# Altium schematic symbol library thrust_obc.SchLib: 17 symbols
Pins are listed as number, name and electrical type; pins without a type are passive.

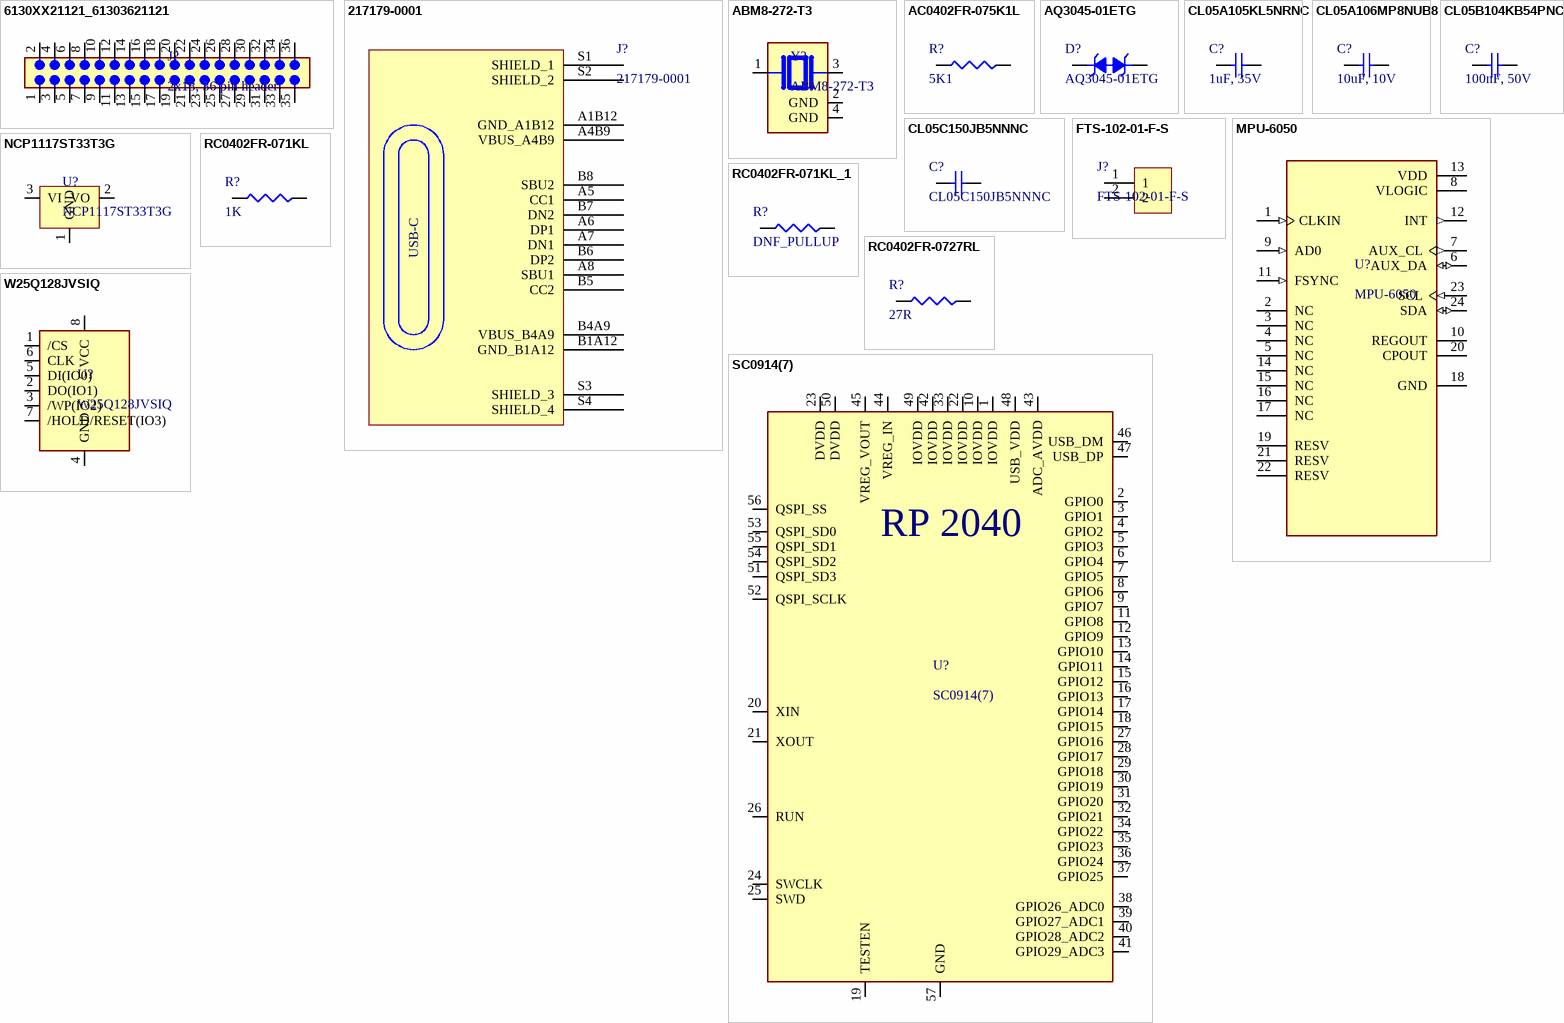
[diagram p0: symbols 6130XX21121_61303621121 to W25Q128JVSIQ]

## 6130XX21121_61303621121
designator J?, comment 2x18, 36 pin header
36 pins, dual Row , straight, gold plating; MF: Wurth Electronics; MP: 61303621121; SnapEDA_Link: https://www.snapeda.com/parts/61303621121/Wurth+Electronics/view-part/?ref=snap; Package: None; Value: *; Check_prices: https://www.snapeda.com/parts/61303621121/Wurth+Electronics/view-part/?ref=eda; DigiKey Part Number: 732-5309-ND
footprint 61303621121
pins: 1, 2, 3, 4, 5, 6, 7, 8, 9, 10, 11, 12, 13, 14, 15, 16, 17, 18, 19, 20, 21, 22, 23, 24, 25, 26, 27, 28, 29, 30, 31, 32, 33, 34, 35, 36

## 217179-0001
designator J?
CONN RCP USB2.0 TYP C 24P SMD RA; Manufacturer: Molex; Supplier: Digikey; Supplier Part Number: 900-2171790001CT-ND; Manufacturer Part Number: 217179-0001; RoHS: No; Category: Connectors; Stock: 7228; Pricing: 1=0.9, 10=0.745, 100=0.6212 (USD); LCSC Part Number: C3197684
footprint FP-2171790001-MFG
pins: A1B12 GND_A1B12, A4B9 VBUS_A4B9, A5 CC1, A6 DP1, A7 DN1, A8 SBU1, B1A12 GND_B1A12, B4A9 VBUS_B4A9, B5 CC2, B6 DP2, B7 DN2, B8 SBU2, S1 SHIELD_1, S2 SHIELD_2, S3 SHIELD_3, S4 SHIELD_4
text: USB-C

## ABM8-272-T3
designator Y?
12 MHz Â±30ppm Crystal 10pF 50 Ohms 4-SMD, No Lead; MF: ABRACON; SnapEDA_Link: https://www.snapeda.com/parts/ABM8-272-T3/Abracon/view-part/?ref=snap; Package: NON-STANDARD-4 Abracon; Value: *; MP: ABM8-272-T3; Check_prices: https://www.snapeda.com/parts/ABM8-272-T3/Abracon/view-part/?ref=eda; LCSC Part Number: C20625731
footprint XTAL_ABM8-272-T3
pins: 1, 2 GND (power), 3, 4 GND (power)

## AC0402FR-075K1L
designator R?, comment 5K1
RES SMD 5.1K OHM 1% 1/16W 0402; Manufacturer: Yageo; Manufacturer Part Number: AC0402FR-075K1L; Additional Feature: LASER TRIMMABLE; Power: 62.5mW; Rated Temperature: 70°C; Value: 5.1kR; Temperature Coefficient: 100ppm/°C; Working Voltage: 50V; Package Height: 0.32mm; Package Length: 1mm; Package Width: 0.5mm; Reference Standard: AEC-Q200; Supplier: Digikey; Supplier Part Number: YAG3503CT-ND; RoHS: Yes; Category: Chip SMD Resistors; Stock: 164969; Pricing: 1=0.1, 10=0.019, 50=0.0116, 100=0.0095, 500=0.00638, 1000=0.00544, 5000=0.00391 (USD); Mounting Technology: Surface Mount; Pins: 2; Package Shape: Rectangular; Case/Package: 0402; Terminal Finish: Nickel; Min Operating Temperature: -55°C; Max Operating Temperature: 155°C; Tolerance: 1%; JESD-609 Code: e3; Resistor Type: FIXED RESISTOR; Construction: Chip; Package Style: SMTMeter; Packaging: Tape and Reel; Technology: METAL GLAZE/THICK FILM; Termination: Wraparound; Reach SVHC Compliant: Yes; RoHS Compliant: Yes; ComponentLink1URL: https://datasheet.ciiva.com:443/pdfs/VipMasterIC/IC/YAGO/YAGO-S-A0003597364/YAGO-S-A0003597364-1.pdf?src-supplier=IHS+Markit; ComponentLink1Description: https://datasheet.ciiva.com:443/pdfs/VipMasterIC/IC/YAGO/YAGO-S-A0003597364/YAGO-S-A0003597364-1.pdf?src-supplier=IHS+Markit; ComponentLink2URL: https://datasheet.octopart.com/AC0402FR-075K1L-Yageo-datasheet-166720450.pdf?src-supplier=Future+Electronics; ComponentLink2Description: https://datasheet.octopart.com/AC0402FR-075K1L-Yageo-datasheet-166720450.pdf?src-supplier=Future+Electronics; ComponentLink3URL: http://www.yageo.com/documents/recent/PYu-AC_51_RoHS_L_2_revised.pdf?src-supplier=Future+Electronics; ComponentLink3Description: http://www.yageo.com/documents/recent/PYu-AC_51_RoHS_L_2_revised.pdf?src-supplier=Future+Electronics; LCSC Part Number: C144745
footprint RESC1005X37N
pins: 1, 2

## AQ3045-01ETG
designator D?
TVS DIODE 5.3VWM 12VC SOD882; Manufacturer: Littelfuse; Diode Element Material: SILICON; Package Body Material: Plastic; Polarity: Bidirectional; Max Breakdown Voltage: 9V; Min Breakdown Voltage: 6.8V; Diode Type: TRANS VOLTAGE SUPPRESSOR; Non-rep Peak Rev Power Dis-Max: 40W; Number of Elements: 1; Rep Pk Reverse Voltage-Max: 5.3V; Reference Standard: AEC-Q101; Supplier: Digikey; Supplier Part Number: F9321CT-ND; Manufacturer Part Number: AQ3045-01ETG; RoHS: Yes; Category: TVS Diodes; Stock: 21664; Pricing: 1=0.5, 10=0.391, 100=0.2344, 500=0.217, 1000=0.14756, 2000=0.13585, 5000=0.1302 (USD); Pins: 2; Package Shape: Rectangular; Min Operating Temperature: -55°C; Max Operating Temperature: 150°C; Package Style: CHIP CARRIERMeter; Surface Mount: Yes; Technology: AVALANCHE; Terminal Form: No Lead; Terminal Position: BOTTOM; Reach SVHC Compliant: Yes; RoHS Compliant: Yes; ComponentLink1URL: https://datasheet.ciiva.com:443/pdfs/VipMasterIC/IC/LFSI/LFSI-S-A0007892042/LFSI-S-A0007892042-1.pdf?src-supplier=IHS+Markit; ComponentLink1Description: https://datasheet.ciiva.com:443/pdfs/VipMasterIC/IC/LFSI/LFSI-S-A0007892042/LFSI-S-A0007892042-1.pdf?src-supplier=IHS+Markit; ComponentLink2URL: https://www.littelfuse.com/~/media/electronics/datasheets/tvs_diode_arrays/littelfuse_tvs_diode_array_aq3045_datasheet.pdf.pdf?src-supplier=Digikey; ComponentLink2Description: https://www.littelfuse.com/~/media/electronics/datasheets/tvs_diode_arrays/littelfuse_tvs_diode_array_aq3045_datasheet.pdf.pdf?src-supplier=Digikey; ComponentLink3URL: http://www.littelfuse.com/~/media/electronics/datasheets/tvs_diode_arrays/littelfuse_tvs_diode_array_aq3045_datasheet.pdf.pdf?src-supplier=Digikey; ComponentLink3Description: http://www.littelfuse.com/~/media/electronics/datasheets/tvs_diode_arrays/littelfuse_tvs_diode_array_aq3045_datasheet.pdf.pdf?src-supplier=Digikey; LCSC Part Number: C3710326
footprint SOD882
pins: 1, 2

## CL05A105KL5NRNC
designator C?, comment 1uF, 35V
CAP CER 1UF 35V X5R 0402; Manufacturer: Samsung; Manufacturer Part Number: CL05A105KL5NRNC; Dielectric Material: Ceramic; Multilayer: Yes; Tolerance  (fill in as +-): 10%; Supplier: Digikey; Supplier Part Number: 1276-6796-1-ND; RoHS: Yes; Category: Ceramic Capacitors; Stock: 469958; Pricing: 1=0.33, 10=0.212, 50=0.149, 100=0.1202, 500=0.08934, 1000=0.07818, 2500=0.07446, 5000=0.06887 (USD); Mounting Technology: Surface Mount; Pins: 2; Package Shape: Rectangular; Case/Package: 0402; Terminal Finish: Nickel; Min Operating Temperature: -55°C; Max Operating Temperature: 85°C; JESD-609 Code: e3; Value: 1uF; Capacitor Type: Ceramic; Packaging: Tape and Reel; Tolerance (fill in as +-): 10%; Rated DC Voltage (URdc): 35V; Temperature Characteristics Code: X5R; Termination: Wraparound; Reach SVHC Compliant: Yes; RoHS Compliant: Yes; ComponentLink1URL: https://datasheet.ciiva.com:443/pdfs/VipMasterIC/IC/SEMS/SEMS-S-A0008384515/SEMS-S-A0008872905-1.pdf?src-supplier=IHS+Markit; ComponentLink1Description: https://datasheet.ciiva.com:443/pdfs/VipMasterIC/IC/SEMS/SEMS-S-A0008384515/SEMS-S-A0008872905-1.pdf?src-supplier=IHS+Markit; ComponentLink2URL: http://www.samsungsem.com/kr/support/product-search/mlcc/CL05A105KL5NRNC.jsp?src-supplier=Digikey; ComponentLink2Description: http://www.samsungsem.com/kr/support/product-search/mlcc/CL05A105KL5NRNC.jsp?src-supplier=Digikey; LCSC Part Number: C307413
footprint CAPC1005X55N
pins: 1, 2

## CL05A106MP8NUB8
designator C?, comment 10uF, 10V
CAP CER 10UF 10V X5R 0402; Manufacturer: Samsung; Manufacturer Part Number: CL05A106MP8NUB8; Dielectric Material: Ceramic; Multilayer: Yes; Tolerance  (fill in as +-): 20%; Supplier: Digikey; Supplier Part Number: 1276-6830-1-ND; RoHS: Yes; Category: Ceramic Capacitors; Stock: 1294909; Pricing: 1=0.33, 10=0.215, 50=0.1584, 100=0.129, 500=0.1018, 1000=0.08597, 2500=0.08145 (USD); Mounting Technology: Surface Mount; Pins: 2; Package Shape: Rectangular; Case/Package: 0402; Terminal Finish: Nickel; Min Operating Temperature: -55°C; Max Operating Temperature: 85°C; JESD-609 Code: e3; Value: 10uF; Capacitor Type: Ceramic; Packaging: Tape and Reel; Tolerance (fill in as +-): 20%; Rated DC Voltage (URdc): 10V; Temperature Characteristics Code: X5R; Termination: Wraparound; Reach SVHC Compliant: Yes; RoHS Compliant: Yes; ComponentLink1URL: https://datasheet.ciiva.com:443/pdfs/VipMasterIC/IC/SEMS/SEMS-S-A0008521219/SEMS-S-A0008521325-1.pdf?src-supplier=IHS+Markit; ComponentLink1Description: https://datasheet.ciiva.com:443/pdfs/VipMasterIC/IC/SEMS/SEMS-S-A0008521219/SEMS-S-A0008521325-1.pdf?src-supplier=IHS+Markit; ComponentLink2URL: http://www.samsungsem.com/kr/support/product-search/mlcc/CL05A106MP8NUB8.jsp?src-supplier=Digikey; ComponentLink2Description: http://www.samsungsem.com/kr/support/product-search/mlcc/CL05A106MP8NUB8.jsp?src-supplier=Digikey; ComponentLink3URL: https://datasheet.octopart.com/CL05A106MP8NUB8-Samsung-Electro-Mechanics-datasheet-136460857.pdf?src-supplier=Future+Electronics; ComponentLink3Description: https://datasheet.octopart.com/CL05A106MP8NUB8-Samsung-Electro-Mechanics-datasheet-136460857.pdf?src-supplier=Future+Electronics; LCSC Part Number: C307415
footprint CAPC1005X55N
pins: 1, 2

## CL05B104KB54PNC
designator C?, comment 100nF, 50V
50V 100nF X7R 10% 0402 Multilayer Ceramic Capacitors MLCC - SMD/SMT ROHS; Manufacturer: Samsung; Manufacturer Part Number: CL05B104KB54PNC; Supplier: Digikey; Supplier Part Number: 1276-CL05B104KB54PNCCT-ND; RoHS: Yes; Category: Ceramic Capacitors; Stock: 1237875; Pricing: 1=0.1, 10=0.044, 50=0.025, 100=0.0194, 500=0.0146, 1000=0.01147, 2500=0.01043, 5000=0.00959 (USD); Pins: 2; Dielectric Material: Ceramic; Capacitor Type: Ceramic; RoHS Compliant: Yes; Reach SVHC Compliant: Yes; ComponentLink1URL: https://datasheet.ciiva.com:443/pdfs/VipMasterIC/IC/SEMS/SEMS-S-A0006318249/SEMS-S-A0006320959-1.pdf?src-supplier=IHS+Markit; ComponentLink1Description: https://datasheet.ciiva.com:443/pdfs/VipMasterIC/IC/SEMS/SEMS-S-A0006318249/SEMS-S-A0006320959-1.pdf?src-supplier=IHS+Markit; ComponentLink2URL: https://datasheet.octopart.com/CL05B104KB54PNC-Samsung-datasheet-8326407.pdf?src-supplier=TME; ComponentLink2Description: https://datasheet.octopart.com/CL05B104KB54PNC-Samsung-datasheet-8326407.pdf?src-supplier=TME; LCSC Part Number: C307331; Value: 100nF; Case/Package: 0402; China RoHS: Compliant; Country of Origin: Mainland China, Philippines, South Korea; Export Control Classification Number (ECCN) Code: EAR99; Height: 500µm; Harmonized Tariff Schedule (HTS) Code: 8532.24.00.20; Introduction Date: 2018-07-31; Length: 1mm; Lifecycle Status: Production; Material: Ceramic; Max Operating Temperature: 125°C; Min Operating Temperature: -55°C; Mounting Technology: Surface Mount; Number of Terminals: 2; Ratings: AEC-Q200; REACH SVHC: Yes; Schedule B: 8532240020, 8532240020|8532240020|8532240020|8532240020|8532240020|8532240020|8532240020|8532240020|8532240020|8532240020|8532240020|8532240020|8532240020|8532240020|8532240020|8532240020|8532240020|8532240020|8532240020|8532240020|8532240020|8532240020|8532240020|85; Tolerance: 10%; Voltage Rating: 50V; Voltage Rating (DC): 50V; Width: 500µm; ComponentLink3URL: https://datasheet.octopart.com:443/CL05B104KB54PNC-Samsung-Electro-Mechanics-datasheet-182018727.pdf?src-supplier=IHS; ComponentLink3Description: https://datasheet.octopart.com:443/CL05B104KB54PNC-Samsung-Electro-Mechanics-datasheet-182018727.pdf?src-supplier=IHS; ComponentLink4URL: https://datasheet.octopart.com:443/CL05B104KB54PNC-Samsung-Electro-Mechanics-datasheet-138685816.pdf?src-supplier=Samsung+SCT; ComponentLink4Description: https://datasheet.octopart.com:443/CL05B104KB54PNC-Samsung-Electro-Mechanics-datasheet-138685816.pdf?src-supplier=Samsung+SCT; ComponentLink5URL: https://datasheet.octopart.com:443/CL05B104KB54PNC-Samsung-datasheet-8326407.pdf?src-supplier=TME; ComponentLink5Description: https://datasheet.octopart.com:443/CL05B104KB54PNC-Samsung-datasheet-8326407.pdf?src-supplier=TME
footprint CAPC1005X55N
pins: 1, 2

## CL05C150JB5NNNC
designator C?
CAP CER 15PF 50V C0G/NP0 0402; Manufacturer: Samsung Electro-Mechanics; Dielectric: C0G; Dielectric Material: Ceramic; Temperature Coefficient: 30ppm/°C; Tolerance: 5%; Supplier: DigiKey; Supplier Part Number: 1276-1179-6-ND; Manufacturer Part Number: CL05C150JB5NNNC; RoHS: Compliant; Category: Ceramic Capacitors; Stock: 499533; Pricing: 1=0.1, 10=0.027, 50=0.0176, 100=0.015, 500=0.01054, 1000=0.00917, 2500=0.00775, 5000=0.0069 (USD); Value: 15pF; Case/Package: 0402; Case Code (Imperial): 0402; Case Code (Metric): 1005; China RoHS: Compliant; Contact Plating: Tin; Country of Origin: Mainland China, Philippines, South Korea; Depth: 500µm; Export Control Classification Number (ECCN) Code: EAR99; Height: 550µm; Harmonized Tariff Schedule (HTS) Code: 8532.24.00.20; Introduction Date: 2007-11-14; Length: 1mm; Lifecycle Status: Production; Material: Ceramic; Max Operating Temperature: 125°C; Min Operating Temperature: -55°C; Mounting Technology: Surface Mount; Number of Terminals: 2; Radiation Hardening: No; REACH SVHC: Yes; Schedule B: 8532240020, 8532240020|8532240020, 8532240020|8532240020|8532240020, 8532240020|8532240020|8532240020|8532240020; Thickness: 558.8µm; Voltage: 50V; Voltage Rating: 50V; Voltage Rating (DC): 50V; Width: 500µm; ComponentLink1URL: https://datasheet.octopart.com:443/CL05C150JB5NNNC-Samsung-Electro-Mechanics-datasheet-136482249.pdf?src-supplier=IHS; ComponentLink1Description: https://datasheet.octopart.com:443/CL05C150JB5NNNC-Samsung-Electro-Mechanics-datasheet-136482249.pdf?src-supplier=IHS; ComponentLink2URL: https://datasheet.octopart.com:443/CL05C150JB5NNNC-Samsung-Electro-Mechanics-datasheet-11549173.pdf?src-supplier=Future+Electronics; ComponentLink2Description: https://datasheet.octopart.com:443/CL05C150JB5NNNC-Samsung-Electro-Mechanics-datasheet-11549173.pdf?src-supplier=Future+Electronics; ComponentLink3URL: https://datasheet.octopart.com:443/CL05C150JB5NNNC-Samsung-Electro-Mechanics-datasheet-110326796.pdf?src-supplier=Future+Electronics; ComponentLink3Description: https://datasheet.octopart.com:443/CL05C150JB5NNNC-Samsung-Electro-Mechanics-datasheet-110326796.pdf?src-supplier=Future+Electronics; ComponentLink4URL: https://datasheet.octopart.com:443/CL05C150JB5NNNC-Samsung-Electro-Mechanics-datasheet-81461711.pdf?src-supplier=Future+Electronics; ComponentLink4Description: https://datasheet.octopart.com:443/CL05C150JB5NNNC-Samsung-Electro-Mechanics-datasheet-81461711.pdf?src-supplier=Future+Electronics; ComponentLink5URL: https://datasheet.octopart.com:443/CL05C150JB5NNNC-Samsung-datasheet-12555055.pdf?src-supplier=Future+Electronics; ComponentLink5Description: https://datasheet.octopart.com:443/CL05C150JB5NNNC-Samsung-datasheet-12555055.pdf?src-supplier=Future+Electronics; ComponentLink6URL: https://datasheet.octopart.com:443/CL05C150JB5NNNC-Samsung-Electro-Mechanics-datasheet-149136764.pdf?src-supplier=Future+Electronics; ComponentLink6Description: https://datasheet.octopart.com:443/CL05C150JB5NNNC-Samsung-Electro-Mechanics-datasheet-149136764.pdf?src-supplier=Future+Electronics; ComponentLink7URL: https://datasheet.octopart.com:443/CL05C150JB5NNNC-Samsung-datasheet-37081328.pdf?src-supplier=Future+Electronics; ComponentLink7Description: https://datasheet.octopart.com:443/CL05C150JB5NNNC-Samsung-datasheet-37081328.pdf?src-supplier=Future+Electronics; ComponentLink8URL: https://datasheet.octopart.com/CL05C150JB5NNNC-Samsung-Electro-Mechanics-datasheet-97040617.pdf; ComponentLink8Description: https://datasheet.octopart.com/CL05C150JB5NNNC-Samsung-Electro-Mechanics-datasheet-97040617.pdf; ComponentLink9URL: https://datasheet.octopart.com/CL05C150JB5NNNC-Samsung-Electro-Mechanics-datasheet-8324245.pdf; ComponentLink9Description: https://datasheet.octopart.com/CL05C150JB5NNNC-Samsung-Electro-Mechanics-datasheet-8324245.pdf; ComponentLink10URL: https://datasheet.octopart.com:443/CL05C150JB5NNNC-Samsung-datasheet-8326407.pdf?src-supplier=TME; ComponentLink10Description: https://datasheet.octopart.com:443/CL05C150JB5NNNC-Samsung-datasheet-8326407.pdf?src-supplier=TME; LCSC Part Number: C86285
pins: 1, 2

## FTS-102-01-F-S
designator J?
CONN HEADER VERT 2POS 1.27MM; Manufacturer: Samtec; Manufacturer Series: FTS; Connector Type: BOARD CONNECTOR; Option: General Purpose; Additional Feature: Low Profile; Filter Feature: No; Number of Rows Loaded: 1; Number of Contacts: 2; Supplier: Digikey; Supplier Part Number: SAM15176-ND; Manufacturer Part Number: FTS-102-01-F-S; RoHS: Yes; Category: Connectors; Stock: 1204; Pricing: 1=0.68, 10=0.592, 100=0.4878, 500=0.4242, 1000=0.34996, 5000=0.30754, 10000=0.28634 (USD); Mounting Technology: Board; Contact Material: Bronze; Contact Finish - Mating: GOLD (3) OVER NICKEL (50); Contact Finish - Termination: Matte Tin (Sn) - with Nickel (Ni) barrier; JESD-609 Code: e3; Contact Gender: Male; Mixed Contacts: No; Mounting Style: STRAIGHT; Termination: Solder; Terminal Pitch: 1.27mm; Flammability Rating: UL94 V-0; DIN Conformance: No; IEC Conformance: No; MIL Conformance: No; Reach SVHC Compliant: Yes; RoHS Compliant: Yes; ComponentLink1URL: https://datasheet.ciiva.com:443/pdfs/VipMasterIC/IC/SAMI/SAMI-S-A0001504673/SAMI-S-A0001504673-1.pdf?src-supplier=IHS+Markit; ComponentLink1Description: https://datasheet.ciiva.com:443/pdfs/VipMasterIC/IC/SAMI/SAMI-S-A0001504673/SAMI-S-A0001504673-1.pdf?src-supplier=IHS+Markit; ComponentLink2URL: http://www.samtec.com/documents/webfiles/pdf/FTS.pdf?src-supplier=Avnet; ComponentLink2Description: http://www.samtec.com/documents/webfiles/pdf/FTS.pdf?src-supplier=Avnet; LCSC Part Number: C6045317
pins: 1, 2

## MPU-6050
designator U?
MPU-6050 series Accelerometer, Gyroscope, 3 Axis Sensor Evaluation Board; MF: TDK InvenSense; SnapEDA_Link: https://www.snapeda.com/parts/MPU-6050/TDK+InvenSense/view-part/?ref=snap; Package: QFN-24 InvenSense; Value: *; MP: MPU-6050; Check_prices: https://www.snapeda.com/parts/MPU-6050/TDK+InvenSense/view-part/?ref=eda; LCSC Part Number: C5445394
footprint QFN50P400X400X95-24N
pins: 1 CLKIN (in), 2 NC, 3 NC, 4 NC, 5 NC, 6 AUX_DA (io), 7 AUX_CL (out), 8 VLOGIC (power), 9 AD0 (in), 10 REGOUT, 11 FSYNC (in), 12 INT (out), 13 VDD (power), 14 NC, 15 NC, 16 NC, 17 NC, 18 GND (power), 19 RESV, 20 CPOUT, 21 RESV, 22 RESV, 23 SCL (in), 24 SDA (io)

## NCP1117ST33T3G
designator U?
IC REG LINEAR 3.3V 1A SOT-223; Manufacturer: onsemi; Manufacturer Lifecycle Status: ACTIVE; Accuracy: 1%; Input Bias Current: 6mA; Max Supply Voltage: 15V; Max Junction Temperature (Tj): 150°C; Min Input Voltage: 4.75V; Number of Channels: 1; Output Type: Fixed; Polarity: Positive; Power Rating: 100mW; Quiescent Current: 10mA; Reference Voltage: 1.25V; Value: 220kΩ; Voltage Rating: 75V; Voltage Tolerance: 2%; Supplier: DigiKey; Supplier Part Number: NCP1117ST33T3GOSCT-ND; Manufacturer Part Number: NCP1117ST33T3G; RoHS: Compliant; Category: LDO Voltage Regulators; Stock: 50575; Pricing: 1=0.6, 10=0.42, 25=0.376, 100=0.3278, 250=0.30472, 500=0.29084, 1000=0.27939, 4000=0.25458, 8000=0.24839 (USD); Case/Package: SOP; Case Code (Imperial): 0603; Case Code (Metric): 1608; China RoHS: Compliant; Contact Plating: Tin; Halogen Free: Halogen Free; Height: 450µm; Height - Seated (Max): 1.8mm; Lead Free: Lead Free; Length: 6.5mm; Lifecycle Status: Production; Max Operating Temperature: 125°C; Max Output current: 1A; Max Output Voltage: 3.3V; Min Current Limit: 1A; Min Operating Temperature: 0°C; Min Output Voltage: 3.3V; Min Supply Voltage: 4.75V; Mounting Technology: Surface Mount; Nominal Output Voltage: 3.3V; Number of Circuits: 1; Number of Outputs: 1; Pins: 4; Number of Regulators: 1; Number of Terminals: 4; Output Current: 1A; Output Voltage: 3.3V; Output Voltage Accuracy: 1%; Packaging: Tape and Reel; Radiation Hardening: No; Ratings: AEC-Q100; REACH SVHC: Yes; Schedule B: 8542390000, 8542390000|8542390000|8542390000|8542390000|8542390000|8542390000|8542390000|8542390000|8542390000|8542390000|8542390000|8542390000|8542390000|8542390000|8542390000|8542390000|8542390000|8542390000|8542390000|8542390000|8542390000|8542390000|8542390000|85; Terminal Pitch: 2.3mm; Termination: SMD/SMT; Tolerance: 1%; Weight: 2.012816mg; Width: 3.5mm; ComponentLink1URL: https://datasheet.octopart.com:443/NCP1117ST33T3G-ON-Semiconductor-datasheet-11536806.pdf?src-supplier=Newark; ComponentLink1Description: https://datasheet.octopart.com:443/NCP1117ST33T3G-ON-Semiconductor-datasheet-11536806.pdf?src-supplier=Newark; ComponentLink2URL: https://datasheet.octopart.com:443/NCP1117ST33T3G-ON-Semiconductor-datasheet-8478322.pdf?src-supplier=Newark; ComponentLink2Description: https://datasheet.octopart.com:443/NCP1117ST33T3G-ON-Semiconductor-datasheet-8478322.pdf?src-supplier=Newark; ComponentLink3URL: https://datasheet.octopart.com:443/NCP1117ST33T3G-ON-Semiconductor-datasheet-5326951.pdf?src-supplier=Newark; ComponentLink3Description: https://datasheet.octopart.com:443/NCP1117ST33T3G-ON-Semiconductor-datasheet-5326951.pdf?src-supplier=Newark; ComponentLink4URL: https://datasheet.octopart.com:443/NCP1117ST33T3G-ON-Semiconductor-datasheet-78758821.pdf?src-supplier=Newark; ComponentLink4Description: https://datasheet.octopart.com:443/NCP1117ST33T3G-ON-Semiconductor-datasheet-78758821.pdf?src-supplier=Newark; ComponentLink5URL: https://datasheet.octopart.com:443/NCP1117ST33T3G-onsemi-datasheet-180965004.pdf?src-supplier=IHS; ComponentLink5Description: https://datasheet.octopart.com:443/NCP1117ST33T3G-onsemi-datasheet-180965004.pdf?src-supplier=IHS; ComponentLink6URL: https://datasheet.octopart.com:443/NCP1117ST33T3G-ON-Semiconductor-datasheet-138897322.pdf?src-supplier=Augswan; ComponentLink6Description: https://datasheet.octopart.com:443/NCP1117ST33T3G-ON-Semiconductor-datasheet-138897322.pdf?src-supplier=Augswan; ComponentLink7URL: https://datasheet.octopart.com:443/NCP1117ST33T3G-ON-Semiconductor-datasheet-20694859.pdf?src-supplier=Farnell; ComponentLink7Description: https://datasheet.octopart.com:443/NCP1117ST33T3G-ON-Semiconductor-datasheet-20694859.pdf?src-supplier=Farnell; ComponentLink8URL: https://datasheet.octopart.com:443/NCP1117ST33T3G-ON-Semiconductor-datasheet-16809071.pdf?src-supplier=Farnell; ComponentLink8Description: https://datasheet.octopart.com:443/NCP1117ST33T3G-ON-Semiconductor-datasheet-16809071.pdf?src-supplier=Farnell; ComponentLink9URL: https://datasheet.octopart.com:443/NCP1117ST33T3G-ON-Semiconductor-datasheet-5330140.pdf?src-supplier=Farnell; ComponentLink9Description: https://datasheet.octopart.com:443/NCP1117ST33T3G-ON-Semiconductor-datasheet-5330140.pdf?src-supplier=Farnell; ComponentLink10URL: https://datasheet.octopart.com:443/NCP1117ST33T3G-ON-Semiconductor-datasheet-7627526.pdf?src-supplier=Farnell; ComponentLink10Description: https://datasheet.octopart.com:443/NCP1117ST33T3G-ON-Semiconductor-datasheet-7627526.pdf?src-supplier=Farnell; ComponentLink11URL: https://datasheet.octopart.com:443/NCP1117ST33T3G-onsemi-datasheet-157855866.pdf?src-supplier=TME; ComponentLink11Description: https://datasheet.octopart.com:443/NCP1117ST33T3G-onsemi-datasheet-157855866.pdf?src-supplier=TME; ComponentLink12URL: https://datasheet.octopart.com:443/NCP1117ST33T3G-ON-Semiconductor-datasheet-38720738.pdf?src-supplier=RS+(Formerly+Allied+Electronics); ComponentLink12Description: https://datasheet.octopart.com:443/NCP1117ST33T3G-ON-Semiconductor-datasheet-38720738.pdf?src-supplier=RS+(Formerly+Allied+Electronics); ComponentLink13URL: https://datasheet.octopart.com:443/NCP1117ST33T3G-ON-Semiconductor-datasheet-14168854.pdf?src-supplier=iiiC; ComponentLink13Description: https://datasheet.octopart.com:443/NCP1117ST33T3G-ON-Semiconductor-datasheet-14168854.pdf?src-supplier=iiiC; ComponentLink14URL: http://sigma.octopart.com:80/15540786/rohs_certificate/ON-Semiconductor-NCP1117ST33T3G.pdf?src-supplier=Compliance+Statements; ComponentLink14Description: http://sigma.octopart.com:80/15540786/rohs_certificate/ON-Semiconductor-NCP1117ST33T3G.pdf?src-supplier=Compliance+Statements; ComponentLink15URL: http://sigma.octopart.com:80/15681617/materials_sheet/ON-Semiconductor-NCP1117ST33T3G.csv?src-supplier=Compliance+Statements; ComponentLink15Description: http://sigma.octopart.com:80/15681617/materials_sheet/ON-Semiconductor-NCP1117ST33T3G.csv?src-supplier=Compliance+Statements; ComponentLink16URL: http://sigma.octopart.com:80/150621358/rohs_statement/ON-Semiconductor-NCP1117ST33T3G.pdf?src-supplier=Compliance+Statements; ComponentLink16Description: http://sigma.octopart.com:80/150621358/rohs_statement/ON-Semiconductor-NCP1117ST33T3G.pdf?src-supplier=Compliance+Statements; ComponentLink17URL: http://sigma.octopart.com:80/reach_statement/ON-Semiconductor-company-79.pdf?src-supplier=Compliance+Statements; ComponentLink17Description: http://sigma.octopart.com:80/reach_statement/ON-Semiconductor-company-79.pdf?src-supplier=Compliance+Statements; ComponentLink18URL: https://octopart.com:443/opatz8j6/c1?t=KHgUqof7E816k_dQATpolSqw3NCmPU_iyICzlXAUIjl7RUiQXsFAQoTdGccYUsFp9rrolQX2qUcg4AVgIw5FPNukDpn7umAKBdRJ3jioYq70Xpuh1BstpBEj8jqgjBbJ2LourZVrsbR2qGSNZgpFDdapECFNR1zCU02ohquAxny97BVRXa0f-zPMYkr2XC2jXlqOmeOu_IEz5KEYLDD_f5QkUFPh_fvcf5FG13bzi1LJhYYyMCkFQEwttEPV1dQcSJ8dmZmnWRGNKgsjk43CkZiUjyXrxzaOaCPAYLMe_7B9yb0rX0LMO1IZJj36RmMeyXAyxdLs2vyO7x4Xe754WjIynJD9dIOGmc2foa-_H98&src-supplier=Compliance+Statements; ComponentLink18Description: https://octopart.com:443/opatz8j6/c1?t=KHgUqof7E816k_dQATpolSqw3NCmPU_iyICzlXAUIjl7RUiQXsFAQoTdGccYUsFp9rrolQX2qUcg4AVgIw5FPNukDpn7umAKBdRJ3jioYq70Xpuh1BstpBEj8jqgjBbJ2LourZVrsbR2qGSNZgpFDdapECFNR1zCU02ohquAxny97BVRXa0f-zPMYkr2XC2jXlqOmeOu_IEz5KEYLDD_f5QkUFPh_fvcf5FG13bzi1LJhYYyMCkFQEwttEPV1dQcSJ8dmZmnWRGNKgsjk43CkZiUjyXrxzaOaCPAYLMe_7B9yb0rX0LMO1IZJj36RmMeyXAyxdLs2vyO7x4Xe754WjIynJD9dIOGmc2foa-_H98&src-supplier=Compliance+Statements; ComponentLink19URL: https://octopart.com:443/opatz8j6/c1?t=pMrzQ365t0pcR7ooXi4zoo6Akmp0TVp2VnZuf957Qn2lwbrmCdLipgxFv4YraZSR83R2K36wUmyt2XVFOcX8YjGMK6LApWIuARGX9hYeFeM_D34gf-lDQdRtTOi7fDqA1pSbUwF7vXPfQDNQJR2Z6GNg0X_tgABVK7sgXKYZYbC_XSU4OovoMoiRB8KrxZXhdwg8lBX_FOfcFltOmX8eOzaBMFjs8tQfZoGiMZgUiH0IIEbXGhxSzWQTM-UML9RGYQ5sMAjdnXza_jlFPtTbUZBC4-2kpIgWhKPqcway_cB7wIaqnKG9xeisz2VRQjI_gSzyhLLoiIRB2ouI2PIPm558FaUy3nJUWzlHcAzgbA&src-supplier=Compliance+Statements; ComponentLink19Description: https://octopart.com:443/opatz8j6/c1?t=pMrzQ365t0pcR7ooXi4zoo6Akmp0TVp2VnZuf957Qn2lwbrmCdLipgxFv4YraZSR83R2K36wUmyt2XVFOcX8YjGMK6LApWIuARGX9hYeFeM_D34gf-lDQdRtTOi7fDqA1pSbUwF7vXPfQDNQJR2Z6GNg0X_tgABVK7sgXKYZYbC_XSU4OovoMoiRB8KrxZXhdwg8lBX_FOfcFltOmX8eOzaBMFjs8tQfZoGiMZgUiH0IIEbXGhxSzWQTM-UML9RGYQ5sMAjdnXza_jlFPtTbUZBC4-2kpIgWhKPqcway_cB7wIaqnKG9xeisz2VRQjI_gSzyhLLoiIRB2ouI2PIPm558FaUy3nJUWzlHcAzgbA&src-supplier=Compliance+Statements; LCSC Part Number: C26537
pins: 1 GND, 2 VO, 3 VI

## RC0402FR-071KL
designator R?, comment 1K
RES 1K OHM 1% 1/16W 0402; Manufacturer: Yageo; Manufacturer Part Number: RC0402FR-071KL; Additional Feature: LASER TRIMMABLE; Power: 62.5mW; Rated Temperature: 70°C; Value: 1kR; Temperature Coefficient: 100ppm/°C; Working Voltage: 50V; Package Height: 0.35mm; Package Length: 1mm; Package Width: 0.5mm; Supplier: Digikey; Supplier Part Number: 311-1.00KLRCT-ND; RoHS: Yes; Category: Chip SMD Resistors; Stock: 11967525; Pricing: 1=0.1, 10=0.015, 50=0.0088, 100=0.0073, 500=0.00488, 1000=0.00417, 5000=0.00297 (USD); Mounting Technology: Surface Mount; Pins: 2; Package Shape: Rectangular; Case/Package: 0402; Terminal Finish: Nickel; Min Operating Temperature: -55°C; Max Operating Temperature: 155°C; Tolerance: 1%; JESD-609 Code: e3; Resistor Type: FIXED RESISTOR; Construction: Chip; Package Style: SMTMeter; Packaging: Tape and Reel; Technology: METAL GLAZE/THICK FILM; Termination: Wraparound; Reach SVHC Compliant: Yes; RoHS Compliant: Yes; ComponentLink1URL: https://datasheet.ciiva.com:443/pdfs/VipMasterIC/IC/YAGO/YAGO-S-A0008145938/YAGO-S-A0008145938-1.pdf?src-supplier=IHS+Markit; ComponentLink1Description: https://datasheet.ciiva.com:443/pdfs/VipMasterIC/IC/YAGO/YAGO-S-A0008145938/YAGO-S-A0008145938-1.pdf?src-supplier=IHS+Markit; ComponentLink2URL: https://datasheet.ciiva.com/11819/0900766b80c66297-11819477.pdf?src-supplier=Rs; ComponentLink2Description: https://datasheet.ciiva.com/11819/0900766b80c66297-11819477.pdf?src-supplier=Rs; ComponentLink3URL: https://datasheet.ciiva.com/22747/1018594-22747513.pdf?src-supplier=Element14; ComponentLink3Description: https://datasheet.ciiva.com/22747/1018594-22747513.pdf?src-supplier=Element14; ComponentLink4URL: https://datasheet.ciiva.com/12666/pyu-rc0402-51-rohs-l-6-r-12666741.pdf?src-supplier=Mouser; ComponentLink4Description: https://datasheet.ciiva.com/12666/pyu-rc0402-51-rohs-l-6-r-12666741.pdf?src-supplier=Mouser; ComponentLink5URL: https://datasheet.ciiva.com/17063/pyu-rc0402-51-rohs-l-6-r-17063193.pdf?src-supplier=Future+Electronics; ComponentLink5Description: https://datasheet.ciiva.com/17063/pyu-rc0402-51-rohs-l-6-r-17063193.pdf?src-supplier=Future+Electronics; ComponentLink6URL: https://datasheet.ciiva.com/7983/1018594-7983502.pdf?src-supplier=Element14; ComponentLink6Description: https://datasheet.ciiva.com/7983/1018594-7983502.pdf?src-supplier=Element14; ComponentLink7URL: https://datasheet.ciiva.com/7849/1018594-7849869.pdf?src-supplier=Element14; ComponentLink7Description: https://datasheet.ciiva.com/7849/1018594-7849869.pdf?src-supplier=Element14; ComponentLink8URL: https://datasheet.ciiva.com/7849/1018594-7849871.pdf?src-supplier=Element14; ComponentLink8Description: https://datasheet.ciiva.com/7849/1018594-7849871.pdf?src-supplier=Element14; LCSC Part Number: C106235
footprint RESC1005X37N
pins: 1, 2

## RC0402FR-071KL_1
designator R?, comment DNF_PULLUP  (no BOM)
Generic 0402 Resistor - DO NOT POPULATE; Manufacturer: Yageo; Manufacturer Part Number: RC0402FR-071KL; Tolerance: 1%; Additional Feature: LASER TRIMMABLE; Power: 62.5mW; Rated Temperature: 70°C; Value: 1kR; Temperature Coefficient: 100ppm/°C; Working Voltage: 50V; Package Height: 0.35mm; Package Length: 1mm; Package Width: 0.5mm; Supplier: Digikey; Supplier Part Number: 311-1.00KLRCT-ND; RoHS: Yes; Category: Chip SMD Resistors; Stock: 11967525; Pricing: 1=0.1, 10=0.015, 50=0.0088, 100=0.0073, 500=0.00488, 1000=0.00417, 5000=0.00297 (USD); Mounting Technology: Surface Mount; Pins: 2; Package Shape: Rectangular; Case/Package: 0402; Terminal Finish: Nickel; Min Operating Temperature: -55°C; Max Operating Temperature: 155°C; JESD-609 Code: e3; Resistor Type: FIXED RESISTOR; Construction: Chip; Package Style: SMTMeter; Packaging: Tape and Reel; Technology: METAL GLAZE/THICK FILM; Termination: Wraparound; Reach SVHC Compliant: Yes; RoHS Compliant: Yes; LCSC Part Number: C106235
footprint RESC1005X37N
pins: 1, 2

## RC0402FR-0727RL
designator R?, comment 27R
RES 27 OHM 1% 1/16W 0402; Manufacturer: Yageo; Manufacturer Part Number: RC0402FR-0727RL; Additional Feature: LASER TRIMMABLE; Power: 62.5mW; Rated Temperature: 70°C; Temperature Coefficient: 100ppm/°C; Working Voltage: 50V; Package Height: 0.35mm; Package Length: 1mm; Package Width: 0.5mm; Supplier: Digikey; Supplier Part Number: YAG3086CT-ND; RoHS: Yes; Category: Chip SMD Resistors; Stock: 423061; Pricing: 1=0.1, 10=0.015, 50=0.0088, 100=0.0073, 500=0.00488, 1000=0.00417, 5000=0.00297 (USD); Mounting Technology: Surface Mount; Pins: 2; Package Shape: Rectangular; Case/Package: 0402; Terminal Finish: Nickel; Min Operating Temperature: -55°C; Max Operating Temperature: 155°C; Tolerance: 1%; JESD-609 Code: e3; Resistor Type: FIXED RESISTOR; Construction: Chip; Package Style: SMTMeter; Packaging: Tape and Reel; Value: 27R; Technology: METAL GLAZE/THICK FILM; Termination: Wraparound; Reach SVHC Compliant: Yes; RoHS Compliant: Yes; ComponentLink1URL: https://datasheet.ciiva.com:443/pdfs/VipMasterIC/IC/YAGO/YAGO-S-A0008145938/YAGO-S-A0008145938-1.pdf?src-supplier=IHS+Markit; ComponentLink1Description: https://datasheet.ciiva.com:443/pdfs/VipMasterIC/IC/YAGO/YAGO-S-A0008145938/YAGO-S-A0008145938-1.pdf?src-supplier=IHS+Markit; ComponentLink2URL: https://datasheet.ciiva.com/11808/0900766b80c66297-11808450.pdf?src-supplier=Rs; ComponentLink2Description: https://datasheet.ciiva.com/11808/0900766b80c66297-11808450.pdf?src-supplier=Rs; ComponentLink3URL: https://datasheet.ciiva.com/7849/1018594-7849927.pdf?src-supplier=Element14; ComponentLink3Description: https://datasheet.ciiva.com/7849/1018594-7849927.pdf?src-supplier=Element14; ComponentLink4URL: https://datasheet.ciiva.com/7849/1018594-7849926.pdf?src-supplier=Element14; ComponentLink4Description: https://datasheet.ciiva.com/7849/1018594-7849926.pdf?src-supplier=Element14; LCSC Part Number: C138021
footprint RESC1005X37N
pins: 1, 2

## SC0914(7)
designator U?
RISC Microcontroller, FLASH, Cortex-M0+ CPU, 133MHz, CMOS; Manufacturer: Raspberry Pi; ADC Channels (Resolution): 4-Ch 12-Bit; Interface: QSPI, USB; Clock Frequency: 15MHz; Max Supply Current: 14.7mA; Max Supply Voltage: 1.16V; Min Supply Voltage: 1.05V; Number of I/Os: 4; Number of Interrupts: 26; Number of Timers/Counters: 5; Operating Supply Voltage: 1.1V; Peripherals: POR, WDT; RAM Size: 264kB; Supplier: DigiKey; Supplier Part Number: 2648-SC0914(7)CT-ND; Manufacturer Part Number: SC0914(7); RoHS: Compliant; Category: Microcontrollers; Stock: 15229; Pricing: 1=0.92, 500=0.8 (USD); Height - Seated (Max): 900µm; Harmonized Tariff Schedule (HTS) Code: 8542.31.00.30; Length: 7mm; Max Operating Temperature: 85°C; Memory Format: FLASH; Min Operating Temperature: -40°C; Number of Terminals: 56; Terminal Pitch: 400µm; Width: 7mm; ComponentLink1URL: https://datasheet.octopart.com:443/SC0914%287%29-Raspberry-Pi-datasheet-181182706.pdf?src-supplier=IHS; ComponentLink1Description: https://datasheet.octopart.com:443/SC0914%287%29-Raspberry-Pi-datasheet-181182706.pdf?src-supplier=IHS; LCSC Part Number: C6472266
pins: 1 IOVDD, 2 GPIO0, 3 GPIO1, 4 GPIO2, 5 GPIO3, 6 GPIO4, 7 GPIO5, 8 GPIO6, 9 GPIO7, 10 IOVDD, 11 GPIO8, 12 GPIO9, 13 GPIO10, 14 GPIO11, 15 GPIO12, 16 GPIO13, 17 GPIO14, 18 GPIO15, 19 TESTEN, 20 XIN, 21 XOUT, 22 IOVDD, 23 DVDD, 24 SWCLK, 25 SWD, 26 RUN, 27 GPIO16, 28 GPIO17, 29 GPIO18, 30 GPIO19, 31 GPIO20, 32 GPIO21, 33 IOVDD, 34 GPIO22, 35 GPIO23, 36 GPIO24, 37 GPIO25, 38 GPIO26_ADC0, 39 GPIO27_ADC1, 40 GPIO28_ADC2, 41 GPIO29_ADC3, 42 IOVDD, 43 ADC_AVDD, 44 VREG_IN, 45 VREG_VOUT, 46 USB_DM, 47 USB_DP, 48 USB_VDD, 49 IOVDD, 50 DVDD, 51 QSPI_SD3, 52 QSPI_SCLK, 53 QSPI_SD0, 54 QSPI_SD2, 55 QSPI_SD1, 56 QSPI_SS, 57 GND
text: RP 2040

## W25Q128JVSIQ
designator U?
FLASH - NOR Memory IC 128Mb (16M x 8) SPI - Quad I/O, QPI, DTR 133 MHz 8-SOIC; MF: Winbond Electronics; SnapEDA_Link: https://www.snapeda.com/parts/W25Q128JVSIQ/Winbond/view-part/?ref=snap; Package: SOIC-8 Winbond Electronics; Value: *; MP: W25Q128JVSIQ; Check_prices: https://www.snapeda.com/parts/W25Q128JVSIQ/Winbond/view-part/?ref=eda; LCSC Part Number: C97521
footprint SOIC127P790X216-8N
pins: 1 /CS, 2 DO(IO1) (oc), 3 /WP(IO2) (oc), 4 GND (power), 5 DI(IO0) (oc), 6 CLK, 7 /HOLD/RESET(IO3) (oc), 8 VCC (power)